# Altium schematic symbol library TLC549.SchLib: 1 symbol
Pins are listed as number, name and electrical type; pins without a type are passive.

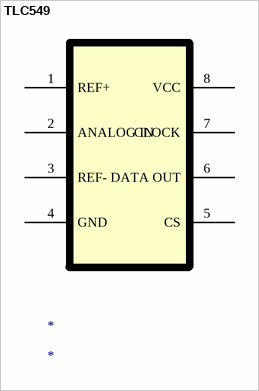
[diagram p0: symbol TLC549]

## TLC549
designator *
pins: 1 REF+, 2 ANALOG IN, 3 REF-, 4 GND, 5 CS, 6 DATA OUT, 7 CLOCK, 8 VCC